# Altium footprint library Mos_STM_STH150N10F7-2.PcbLib: 1 footprints
Each footprint in its own frame and in the unit in brackets; x right, y up, seen from the top. Pads: shape width x height; smd on the part's side, far side on the other; paste and mask are expansions set on the pad; w line width, h text height; cw(c..) or ccw(c..) is an arc to the next point about the centre after c.
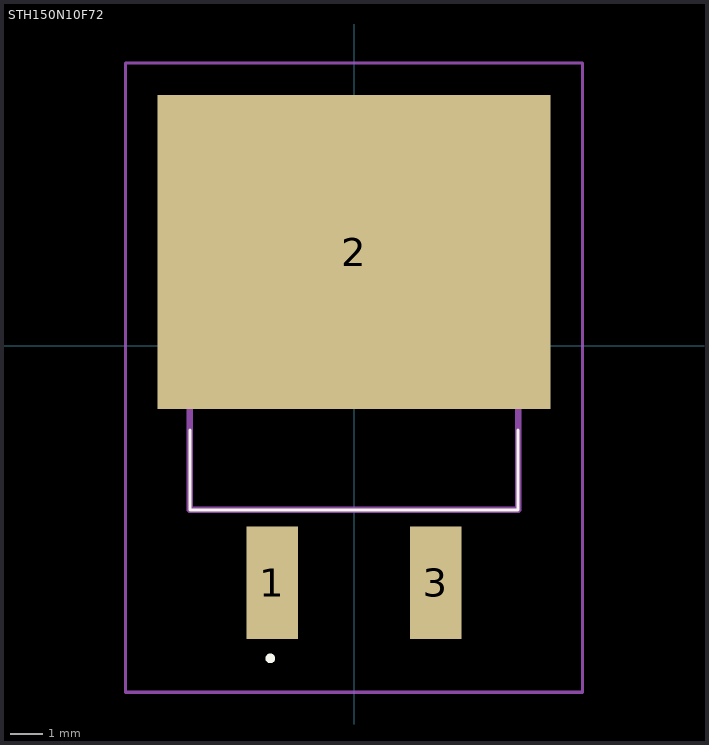
[diagram p0: the footprint, top view; thin cyan lines are the x and y axes]

## STH150N10F72 [mm]
pads (3):
  rect 1.6x3.5 smd: 1(-2.54,-7.365) 3(2.54,-7.365)
  rect 12.2x9.75 smd: 2(0,2.91)
Top Overlay:
  lines w0.1: -5.1,-5.1 5.1,-5.1 ; -5.1,-5.1 5.1,-5.1 ; -5.1,-5.1 -5.1,-2.615 -5.1,-5.1 ; 5.1,-5.1 5.1,-2.615 5.1,-5.1
  lines w0.2: -2.6,-9.765 cw(c-2.6,-9.715) -2.6,-9.665 ; -2.6,-9.765 ccw(c-2.6,-9.715) -2.6,-9.665 ; -2.6,-9.765 cw(c-2.6,-9.715) -2.6,-9.665
Mechanical 13:
  lines w0.2: -5.1,-5.1 -5.1,5.1 5.1,5.1 5.1,-5.1 -5.1,-5.1
Mechanical 15:
  lines w0.1: -7.1,-10.765 -7.1,8.785 7.1,8.785 7.1,-10.765 -7.1,-10.765
3D body "TO263-3-2.stp": height 4.24, standoff 0.03, extent -4.911,-8.553 4.911,6.049